# Altium footprint library Crystal.PcbLib: 18 footprints (part 1 of 2)
Each footprint in its own frame and in the unit in brackets; x right, y up, seen from the top. Pads: shape width x height; smd on the part's side, far side on the other; paste and mask are expansions set on the pad; w line width, h text height; cw(c..) or ccw(c..) is an arc to the next point about the centre after c.
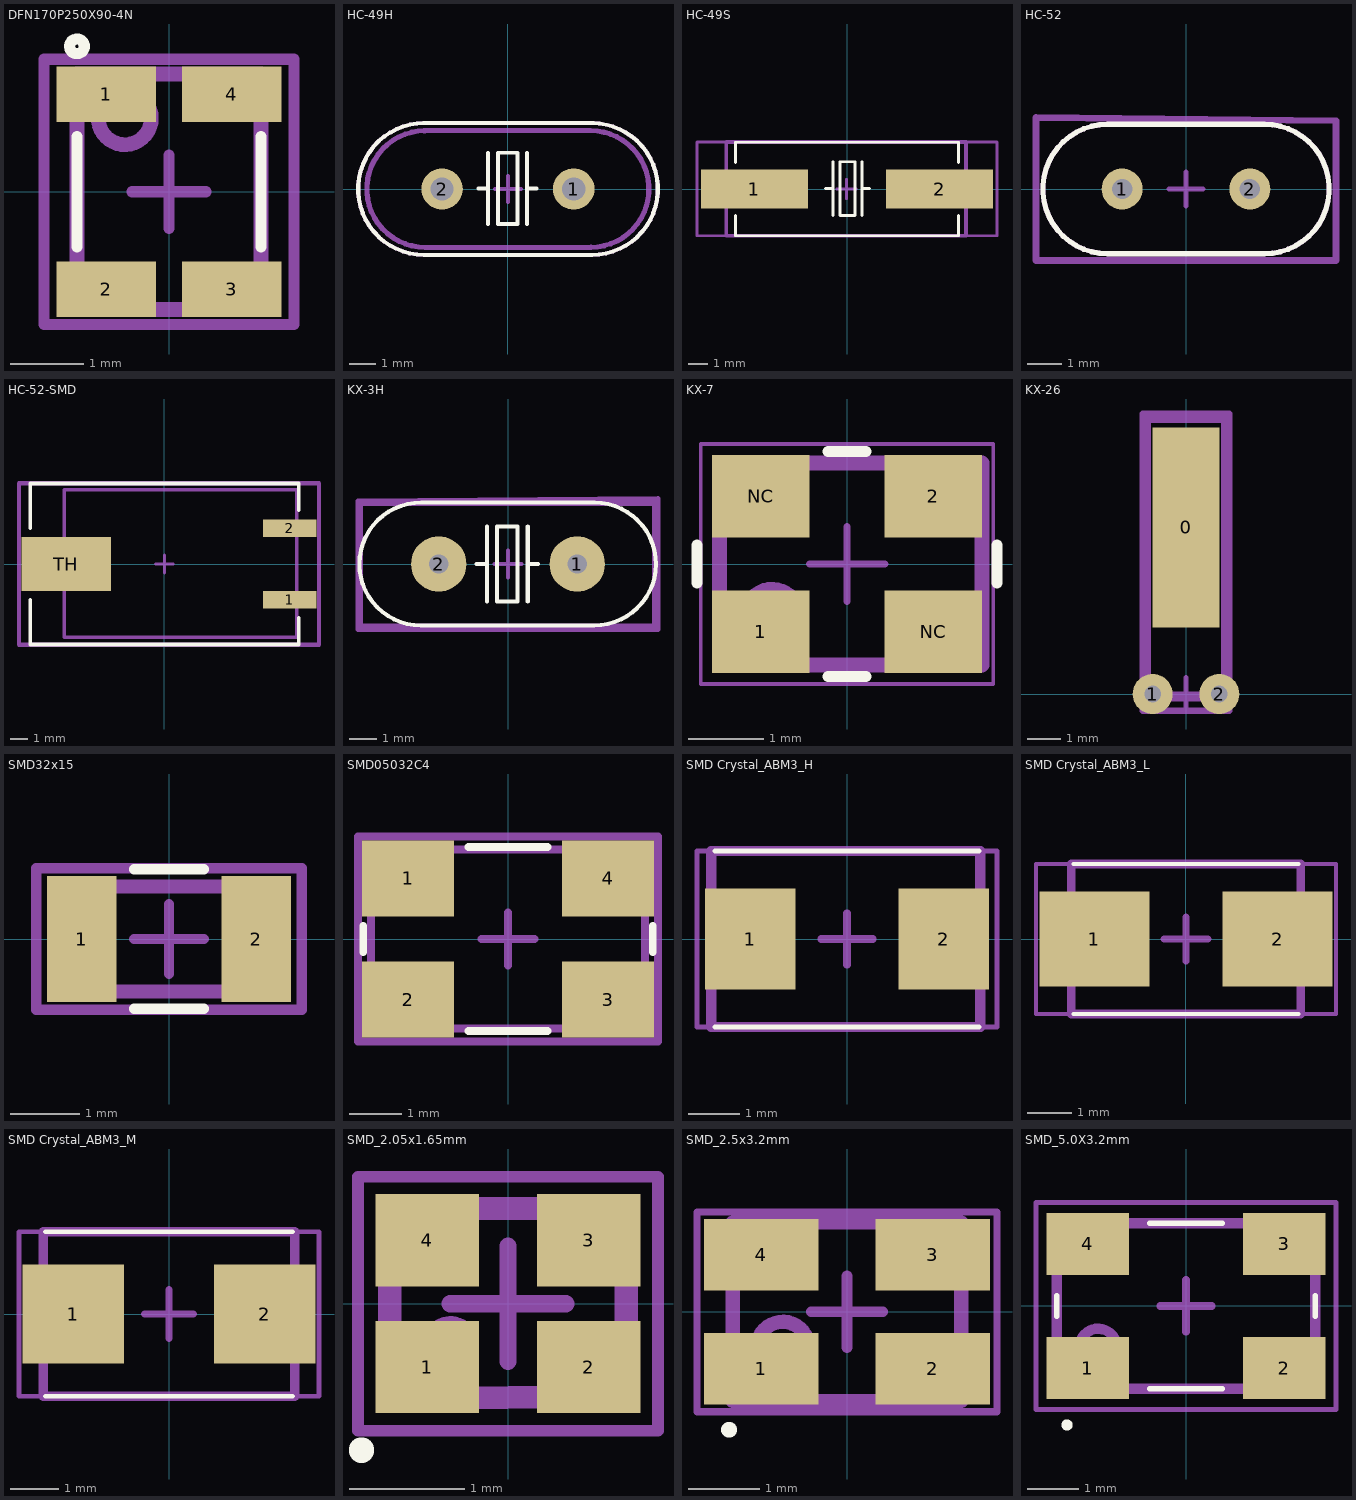
[diagram p0: the footprints below, top view; thin cyan lines are the x and y axes]

## DFN170P250X90-4N [mm] "DFN, 4-Leads, Body 3,20x2,50mm, Pitch 1,70mm, IPC Medium Density"
height 0.9
pads (4):
  rect 1.35x0.75 smd: 1(-0.85,1.325) 2(-0.85,-1.325) 3(0.85,-1.325) 4(0.85,1.325)
Top Overlay:
  circle w0.15: c-1.25,1.975 r0.1
  lines w0.15: -1.25,-0.75 -1.25,0.75 ; 1.25,-0.75 1.25,0.75
Top Assembly (Mech3):
  circle w0.2: c-0.6,1 r0.361
  lines w0.2: -1.25,-1.6 -1.25,1.6 1.25,1.6 1.25,-1.6 -1.25,-1.6
Top Courtyard:
  lines w0.15: -0.5,0 0.5,0 ; 0,-0.5 0,0.5 ; -1.7,-1.8 1.7,-1.8 1.7,1.8 -1.7,1.8 -1.7,-1.8
3D body "tsx-3225.STEP": height 0.6, standoff 0, extent -1.25,-1.6 1.25,1.6

## HC-49H [mm]
height 3.6
pads (2):
  round 1.6 hole 0.9: 1(2.54,0) 2(-2.54,0)
Top Overlay:
  lines w0.15: -3.25,2.55 3.3,2.55 ; -3.24,-2.54 cw(c-3.24,0) -3.236,2.54 ; -3.24,2.55 3.31,2.55 ; -3.23,-2.54 cw(c-3.23,0) -3.226,2.54 ; -3.2,-2.55 3.2,-2.55 ; -3.19,-2.55 3.21,-2.55 ; -1.135,0.025 -0.76,0.025 ; -0.76,-1.35 -0.76,0.025 ; -0.76,1.4 -0.76,0.025 ; 0.74,-1.35 0.74,0.025 ; 0.74,1.4 0.74,0.025 ; 1.115,0.025 0.74,0.025 ; 3.24,-2.54 ccw(c3.24,0) 3.244,2.54 ; 3.25,-2.54 ccw(c3.25,0) 3.254,2.54 ; -0.385,-1.35 -0.01,-1.35 0.365,-1.35 0.365,0.025 0.365,1.4 -0.01,1.4 -0.385,1.4 -0.385,0.025 -0.385,-1.35
Top Assembly (Mech3):
  lines w0.2: -3.226,2.25 3.19,2.25 cw(c3.19,0) 3.2,-2.25 -3.19,-2.25 cw(c-3.19,0) -3.2,2.25
Top Courtyard:
  lines w0.15: -3.25,2.55 3.3,2.55 ; -3.24,-2.54 cw(c-3.24,0) -3.236,2.54 ; -3.24,2.55 3.31,2.55 ; -3.23,-2.54 cw(c-3.23,0) -3.226,2.54 ; -3.2,-2.55 3.2,-2.55 ; -3.19,-2.55 3.21,-2.55 ; -0.5,0 0.5,0 ; 0,-0.5 0,0.5 ; 3.24,-2.54 ccw(c3.24,0) 3.244,2.54 ; 3.25,-2.54 ccw(c3.25,0) 3.254,2.54
3D body "HC-49.STEP": height 3.5, standoff -3, extent -5.4,-2.25 5.4,2.25

## HC-49S [mm]
height 3.6
pads (2):
  rect 5.5x2 smd: 1(-4.75,0) 2(4.75,0)
Top Overlay:
  lines w0.15: -5.715,-1.35 -5.715,-2.4 5.715,-2.4 5.715,-1.35 ; -5.715,1.363 -5.715,2.4 5.715,2.4 5.715,1.35 ; -1.1,0.025 -0.725,0.025 ; -0.725,-1.35 -0.725,0.025 ; -0.725,1.4 -0.725,0.025 ; 0.775,-1.35 0.775,0.025 ; 0.775,1.4 0.775,0.025 ; 1.15,0.025 0.775,0.025 ; -0.35,-1.35 -0.35,0.025 -0.35,1.4 0.025,1.4 0.4,1.4 0.4,0.025 0.4,-1.35 0.025,-1.35 -0.35,-1.35
Top Assembly (Mech3):
  lines w0.2: -6.2,-2.4 6.1,-2.4 6.1,2.413 -6.2,2.413 -6.2,-2.4
Top Courtyard:
  lines w0.15: -5.715,-2.413 cw(c-5.684,-2.444) -5.684,-2.4 ; -0.525,0 0.475,0 ; -0.025,-0.5 -0.025,0.5 ; -7.7,-2.4 7.7,-2.4 7.7,2.413 -7.7,2.413 -7.7,-2.4
3D body "HC-49S.STEP": height 4.35, standoff 0, extent -6.175,-2.35 6.125,2.35

## HC-52 [mm]
height 8.9
pads (2):
  round 1.2 hole 0.6: 1(-1.875,0) 2(1.875,0)
Top Overlay:
  lines w0.15: -2.3,-1.9 cw(c-2.3,0) -2.3,1.9 2.3,1.9 cw(c2.303,0) 2.3,-1.9 -2.3,-1.9
Top Assembly (Mech3):
  lines w0.15: -2.3,-1.9 cw(c-2.3,0) -2.3,1.9 2.3,1.9 cw(c2.303,0) 2.3,-1.9 -2.3,-1.9
Top Courtyard:
  lines w0.15: -0.5,0 0.5,0 ; 0,-0.5 0,0.5
  lines w0.2: -4.4,-2.1 4.4,-2.1 4.4,2 -4.4,2.1 -4.4,-2.1
3D body: height 8.9, standoff 0, extent -4.199,-1.9 4.202,1.9

## HC-52-SMD [mm]
height 3.4
pads (3):
  rect 3x1 smd: 1(7,-2) 2(7,2)
  rect 5x3 smd: TH(-5.5,0)
Top Overlay:
  lines w0.2: -7.5,-2 -7.5,-4.5 7.5,-4.5 7.5,-3 ; -7.5,2 -7.5,4.5 7.5,4.5 7.5,3
Top Assembly (Mech3):
  lines w0.2: -5.6,-4.1 7.4,-4.1 7.4,4.16 -5.6,4.16 -5.6,-4.1
Top Courtyard:
  lines w0.15: -0.5,0 0.5,0 ; 0,-0.5 0,0.5
  lines w0.25: -8.128,-4.5 8.636,-4.5 8.636,4.5 -8.128,4.5 -8.128,-4.5
3D body "HC-52-SMD.STEP": height 4.05, standoff -0.24, extent -5.6,-4.1 7.4,4.16

## KX-3H [mil]
pads (2):
  round 80 hole 27.56: 1(100,0) 2(-100,0)
Top Overlay:
  lines w5.91: -45.28,0 -30.51,0 ; -30.51,-54.13 -30.51,0 ; -30.51,54.13 -30.51,0 ; 28.54,-54.13 28.54,0 ; 28.54,54.13 28.54,0 ; 43.31,0 28.54,0 ; -126,-88.58 cw(c-126,0) -125.09,88.58 125,88.58 cw(c125,0) 124.07,-88.58 -126,-88.58 ; -15.75,-54.13 -0.98,-54.13 13.78,-54.13 13.78,0 13.78,54.13 -0.98,54.13 -15.75,54.13 -15.75,0 -15.75,-54.13
Top Assembly (Mech3):
  lines w7.87: -213.58,-89.57 211.62,-89.57 211.62,87.6 -213.58,87.6 -213.58,-89.57
Top Courtyard:
  lines w5.91: -19.68,0 19.68,0 ; 0,-19.68 0,19.69
  lines w7.87: -216.54,-94.49 216.54,-94.49 216.54,94.49 -216.54,90.55 -216.54,-94.49
3D body "HC-49.STEP": height 137.8, standoff -118.11, extent -213.58,-89.57 211.62,87.6

## KX-7 [mm] "DFN, 4-Leads, Body 2,50x3,20mm, Pitch 2,10mm, IPC Medium Density"
height 0.8
pads (4):
  rect 1.3x1.1 smd: 1(-1.15,-0.9) 2(1.15,0.9) NC(-1.15,0.9) NC(1.15,-0.9)
Top Overlay:
  lines w0.15: -2,-0.25 -2,0.25 ; -0.25,-1.5 0.25,-1.5 ; -0.25,1.5 0.25,1.5 ; 2,-0.25 2,0.25
  text "." at -2.25,-1.5 h0.1
Top Assembly (Mech3):
  circle w0.2: c-1,-0.7 r0.361
  lines w0.2: -1.7,-1.35 1.8,-1.35 1.8,1.35 -1.7,1.35 -1.7,-1.35
Top Courtyard:
  lines w0.05: -1.95,-1.6 -1.95,1.6 1.95,1.6 1.95,-1.6 -1.95,-1.6
  lines w0.1: -0.5,0 0.5,0 ; 0,-0.5 0,0.5
3D body "KX-7.step": height 0.8, standoff 0, extent -1.7,-1.35 1.8,1.35

## KX-26 [mm] "KX-26 - 32768"
pads (3):
  rect 2x6 smd: 0(0,5)
  round 1.2 hole 0.5: 1(-1,0) 2(1,0)
Top Assembly (Mech3):
  lines w0.2: -1.15,-0.125 -1.15,8.225 1.15,8.225 1.15,-0.125 -1.15,-0.125
Top Courtyard:
  lines w0.15: -0.5,0 0.5,0 ; 0,-0.5 0,0.5
  lines w0.2: -1.3,-0.5 1.3,-0.5 1.3,8.4 -1.3,8.4 -1.3,-0.5
3D body "KX-26.STEP": height 1.95, standoff -2, extent -1.15,-0.125 1.15,8.225

## SMD32x15 [mm]
height 0.8
pads (2):
  rect 1x1.8 smd: 1(-1.25,0) 2(1.25,0)
Top Overlay:
  lines w0.15: -0.5,-1 0.5,-1 ; -0.5,1 0.5,1
Top Assembly (Mech3):
  lines w0.2: -1.25,-0.75 1.25,-0.75 1.25,0.75 -1.25,0.75 -1.25,-0.75
Top Courtyard:
  lines w0.15: -0.5,0 0.5,0 ; 0,-0.5 0,0.5 ; -1.905,-1.016 -1.905,1.016 1.905,1.016 1.905,-1.016 -1.905,-1.016
3D body: height 1, standoff 0, extent -1.25,-0.75 1.25,0.75

## SMD05032C4 [mm] "DFN, 4-Leads, Body 3,20x5,00mm, Pitch 3,80mm, IPC Medium Density"
height 1
pads (4):
  rect 1.75x1.45 smd: 1(-1.9,1.15) 2(-1.9,-1.15) 3(1.9,-1.15) 4(1.9,1.15)
Top Overlay:
  lines w0.15: -2.75,-0.25 -2.75,0.25 ; -0.75,-1.75 0.75,-1.75 ; -0.75,1.75 0.75,1.75 ; 2.75,-0.25 2.75,0.25
  text "." at -3.25,1.75 h0.1
Top Assembly (Mech3):
  lines w0.15: -2.6,-1.7 2.6,-1.7 2.6,1.7 -2.6,1.7 -2.6,-1.7
Top Courtyard:
  lines w0.15: -0.5,0 0.5,0 ; 0,-0.5 0,0.5 ; -2.85,-1.95 -2.85,1.95 2.85,1.95 2.85,-1.95 -2.85,-1.95
3D body: height 1, standoff 0.1, extent -2.6,-1.7 2.6,1.7

## SMD Crystal_ABM3_H [mm] "Miniature Ceramic SMD Crystal, Body 4.91x3.20mm, IPC High Density"
height 1.3
pads (2):
  rect 1.75x1.95 smd mask+0.1: 1(-1.875,0) 2(1.875,0)
Top Overlay:
  lines w0.1: -2.55,-1.7 2.55,-1.7 ; -2.55,1.7 2.55,1.7
Top Assembly (Mech3):
  lines w0.2: -2.625,-1.7 2.575,-1.7 2.575,1.7 -2.625,1.7 -2.625,-1.7
Top Courtyard:
  lines w0.1: -2.9,-1.7 2.9,-1.7 2.9,1.7 -2.9,1.7 -2.9,-1.7
  lines w0.15: -0.5,0 0.5,0 ; 0,-0.5 0,0.5
3D body "ABM3.STEP": height 1.3, standoff 0, extent -2.625,-1.7 2.575,1.7

## SMD Crystal_ABM3_L [mm] "Miniature Ceramic SMD Crystal, Body 4.91x3.20mm, IPC Low Density"
height 1.3
pads (2):
  rect 2.5x2.15 smd mask+0.1: 1(-2.075,0) 2(2.075,0)
Top Overlay:
  lines w0.1: -2.55,-1.7 2.55,-1.7 ; -2.55,1.7 2.55,1.7
Top Assembly (Mech3):
  lines w0.2: -2.6,-1.7 -2.6,1.7 2.6,1.7 2.6,-1.7 -2.6,-1.7
Top Courtyard:
  lines w0.1: -3.4,-1.7 3.4,-1.7 3.4,1.7 -3.4,1.7 -3.4,-1.7
  lines w0.15: -0.5,0 0.5,0 ; 0,-0.5 0,0.5
3D body "ABM3.STEP": height 1.3, standoff 0, extent -2.6,-1.7 2.6,1.7

## SMD Crystal_ABM3_M [mm] "Miniature Ceramic SMD Crystal, Body 4.91x3.20mm, IPC Medium Density"
height 1.3
pads (2):
  rect 2.1x2.05 smd mask+0.1: 1(-1.975,0) 2(1.975,0)
Top Overlay:
  lines w0.1: -2.55,-1.7 2.55,-1.7 ; -2.55,1.7 2.55,1.7
Top Assembly (Mech3):
  lines w0.2: -2.6,-1.7 2.6,-1.7 2.6,1.7 -2.6,1.7 -2.6,-1.7
Top Courtyard:
  lines w0.1: -3.1,-1.7 -3.1,1.7 3.1,1.7 3.1,-1.7 -3.1,-1.7
  lines w0.15: -0.5,0 0.5,0 ; 0,-0.5 0,0.5
3D body "ABM3.STEP": height 1.3, standoff 0, extent -2.6,-1.7 2.6,1.7

## SMD_2.05x1.65mm [mm] "SMD resonator_2.05x1.65"
height 0.45
pads (4):
  rect 0.9x0.8 smd mask+0.1: 1(-0.7,-0.55) 2(0.7,-0.55) 3(0.7,0.55) 4(-0.7,0.55)
Top Overlay:
  circle w0.2: c-1.27,-1.27 r0.01
Top Assembly (Mech3):
  circle w0.2: c-0.5,-0.359 r0.15
  lines w0.2: -1.025,-0.825 1.025,-0.8 1.025,0.825 -1.025,0.825 -1.025,-0.825
Top Courtyard:
  lines w0.1: -1.3,-1.1 1.3,-1.1 1.3,1.1 -1.3,1.1 -1.3,-1.1
  lines w0.15: -0.5,0 0.5,0 ; 0,-0.5 0,0.5
3D body "ABM11.step": height 0.59, standoff 0, extent -1,-0.8 1,0.8

## SMD_2.5x3.2mm [mm] "SMD resonator_2.5x3.2mm"
height 1.2
pads (4):
  rect 1.6x1 smd mask+0.1: 1(-1.2,-0.8) 2(1.2,-0.8) 3(1.2,0.8) 4(-1.2,0.8)
Top Overlay:
  circle w0.2: c-1.651,-1.651 r0.01
Top Assembly (Mech3):
  circle w0.2: c-0.9,-0.5 r0.361
  lines w0.2: -1.6,-1.25 1.6,-1.25 1.6,1.25 -1.6,1.25 -1.6,-1.25
Top Courtyard:
  lines w0.1: -2.1,-1.4 2.1,-1.4 2.1,1.4 -2.1,1.4 -2.1,-1.4
  lines w0.15: -0.5,0 0.5,0 ; 0,-0.5 0,0.5
3D body "CTS.step": height 0.77, standoff 0, extent -1.6,-1.25 1.6,1.25

## SMD_5.0X3.2mm [mm] "SMD resonator_5.0X3.2X1.0"
height 1
pads (4):
  rect 1.6x1.2 smd mask+0.1: 1(-1.9,-1.2) 2(1.9,-1.2) 3(1.9,1.2) 4(-1.9,1.2)
Top Overlay:
  circle w0.2: c-2.3,-2.3 r0.01
  lines w0.1: -2.5,-0.2 -2.5,0.2 ; -0.7,-1.6 0.7,-1.6 ; -0.7,1.6 0.7,1.6 ; 2.5,-0.2 2.5,0.2
Top Assembly (Mech3):
  circle w0.2: c-1.7,-0.8 r0.361
  lines w0.2: -2.5,-1.6 2.5,-1.6 2.5,1.6 -2.5,1.6 -2.5,-1.6
Top Courtyard:
  lines w0.1: -2.9,-2 -2.9,2 2.9,2 2.9,-2 -2.9,-2
  lines w0.15: -0.5,0 0.5,0 ; 0,-0.5 0,0.5
3D body "CRYSTAL_SMD_5.0X3.2X1.0.step": height 1, standoff 0, extent -2.5,-1.6 2.5,1.6